# Altium footprint library KA7805ERTF.PcbLib: 1 footprints
Each footprint in its own frame and in the unit in brackets; x right, y up, seen from the top. Pads: shape width x height; smd on the part's side, far side on the other; paste and mask are expansions set on the pad; w line width, h text height; cw(c..) or ccw(c..) is an arc to the next point about the centre after c.
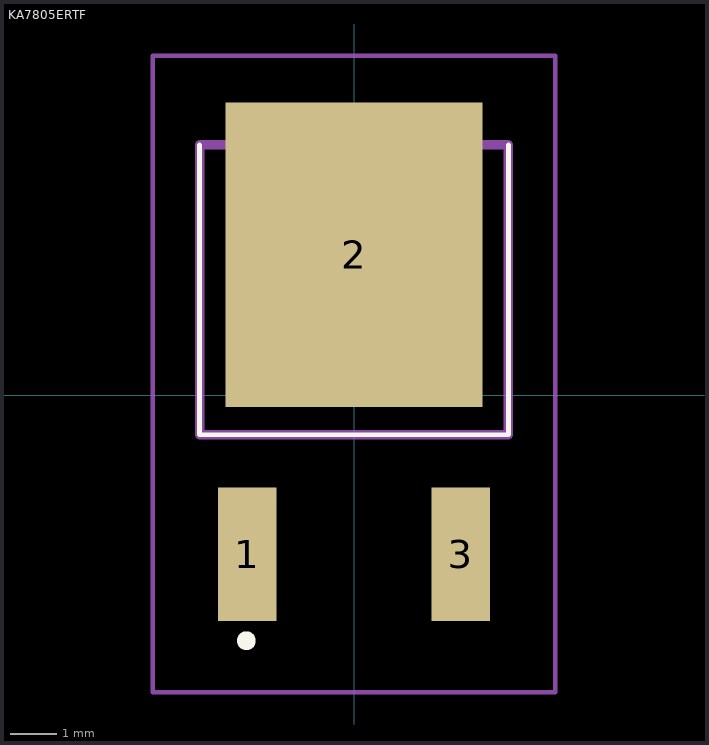
[diagram p0: the footprint, top view; thin cyan lines are the x and y axes]

## KA7805ERTF [mm]
pads (3):
  rect 1.25x2.85 smd: 1(-2.28,-3.4) 3(2.28,-3.4)
  rect 5.5x6.5 smd: 2(0,3)
L26-Silk Screen Top (Multiple PADS layers...):
  lines w0.1: -3.3,5.35 -3.3,-0.85 3.3,-0.85 3.3,5.35
  lines w0.2: -2.4,-5.25 -2.4,-5.25 ; -2.4,-5.25 cw(c-2.3,-5.25) -2.2,-5.25 ; -2.4,-5.25 ccw(c-2.3,-5.25) -2.2,-5.25 ; -2.2,-5.25 -2.2,-5.25
L15 (Multiple PADS layers...):
  lines w0.2: -3.3,-0.85 3.3,-0.85 3.3,5.35 -3.3,5.35 -3.3,-0.85
L20:
  lines w0.1: -4.3,-6.35 4.3,-6.35 4.3,7.25 -4.3,7.25 -4.3,-6.35